# Altium footprint library led.PcbLib: 1 footprints
Each footprint in its own frame and in the unit in brackets; x right, y up, seen from the top. Pads: shape width x height; smd on the part's side, far side on the other; paste and mask are expansions set on the pad; w line width, h text height; cw(c..) or ccw(c..) is an arc to the next point about the centre after c.
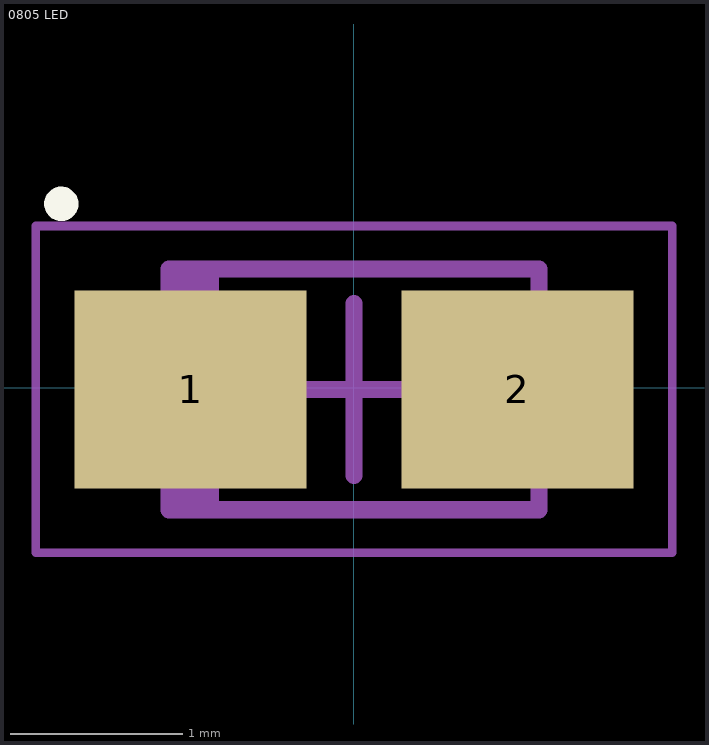
[diagram p0: the footprint, top view; thin cyan lines are the x and y axes]

## 0805 LED [mm] "Diode"
pads (2):
  rect 1.35x1.15 smd: 1(-0.948,-0.009) 2(0.952,-0.009)
Top Overlay:
  circle w0.1: c-1.7,1.07 r0.05
Mechanical 13:
  rectangle: -1.073,-0.709 -0.784,0.691
  lines w0.1: -1.073,-0.709 -1.073,0.691 1.077,0.691 1.077,-0.709 -1.073,-0.709
Mechanical 15:
  lines w0.05: -1.848,-0.959 -1.848,0.941 1.852,0.941 1.852,-0.959 -1.848,-0.959
  lines w0.1: -0.498,-0.009 0.502,-0.009 ; 0.002,-0.509 0.002,0.491
3D body "0805 Blue.step": height 0.78, standoff 0, extent -1,-0.625 1,0.625